# Altium integrated library ERA6ARB512V.IntLib: 1 symbol
Pins are listed as number, name and electrical type; pins without a type are passive.

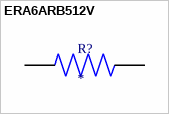
[diagram p0: symbol ERA6ARB512V]

## ERA6ARB512V
designator R?
MP: ERA6ARB512V; Price: None; Value: *; Availability: Unavailable; Package: None
footprint RES_ERA6ARB512V
pins: 1, 2